# Altium schematic symbol library MPM3860GQW-Z.SchLib: 1 symbol
Pins are listed as number, name and electrical type; pins without a type are passive.

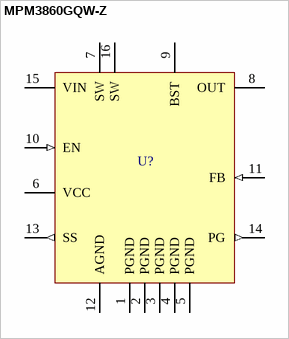
[diagram p0: symbol MPM3860GQW-Z]

## MPM3860GQW-Z
designator U?  (value not drawn)
pins: 1 PGND (power), 2 PGND (power), 3 PGND (power), 4 PGND (power), 5 PGND (power), 6 VCC, 7 SW, 8 OUT (power), 9 BST, 10 EN (in), 11 FB (in), 12 AGND (power), 13 SS (out), 14 PG (out), 15 VIN (power), 16 SW (power)